# EAGLE library part 10103592-0001LF (library 10103592-0001LF)
Check availability <https://pricing.snapeda.com/parts/10103592-0001LF/AMPHENOL%20ICC%20/%20FCI/view-part?ref=eda>
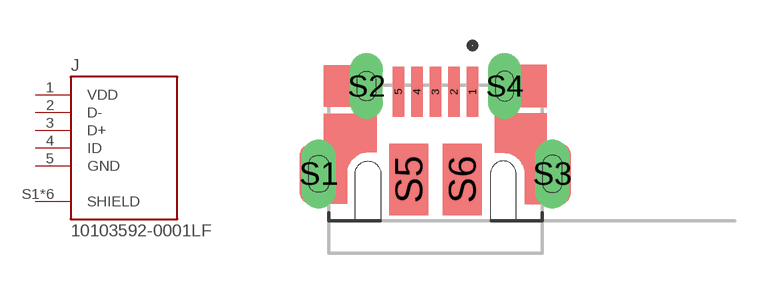
[diagram p0: symbol with the pads of AMPHENOL_10103592-0001LF; footprint AMPHENOL_10103592-0001LF]

Designator prefix J

## 10103592-0001LF (Availability: In Stock; Description: Micro USB 2.0, Input Output Connectors, B TYPE REVERSE; MF: AMPHENOL ICC / FCI; MP: 10103592-0001LF; Package: None; Price: None; Purchase-URL: https://pricing.snapeda.com/search/part/10103592-0001LF/?ref=eda)  [AMPHENOL_10103592-0001LF]
1  VDD  pwr
2  D-
3  D+
4  ID
5  GND  pwr
S1  SHIELD  pwr
S2  SHIELD  pwr
S3  SHIELD  pwr
S4  SHIELD  pwr
S5  SHIELD  pwr
S6  SHIELD  pwr

## Footprint AMPHENOL_10103592-0001LF (pad centres in mm)
smd 0.4 x 1.75: 1 1.3,2.875; 2 0.65,2.875; 3 0,2.875; 4 -0.65,2.875; 5 -1.3,2.875
drill 0.7 pad 0.9 long: S1 -4.1,0; S3 4.1,0
drill 0.65 pad 0.73 long: S2 -2.425,3.08; S4 2.425,3.08
smd 1.375 x 2.5: S5 -0.938,-0.2; S6 0.938,-0.2